# EAGLE library part USB-TO-QUAD-RS-485-CONV-MODULE (library USB-to-Quad-RS-485-Conv-Module)
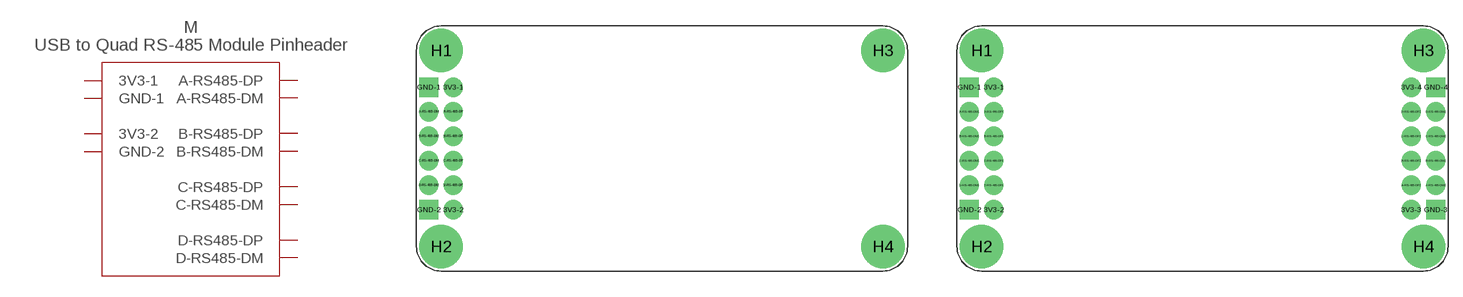
[diagram p0: symbol with the pads of USB-TO-QUAD-RS-485-CONV-MODULE-DIMENSION; footprints USB-TO-QUAD-RS-485-CONV-MODULE-DIMENSION, USB-TO-QUAD-RS-485-CONV-MODULE-TPLACE]

Designator prefix M

## USB-TO-QUAD-RS-485-CONV-MODULEDIMENSION  [USB-TO-QUAD-RS-485-CONV-MODULE-DIMENSION]
3V3-1  3V3-1
3V3-2  3V3-2
A-RS-485-DM  A-RS485-DM
A-RS-485-DP  A-RS485-DP
B-RS-485-DM  B-RS485-DM
B-RS-485-DP  B-RS485-DP
C-RS-485-DM  C-RS485-DM
C-RS-485-DP  C-RS485-DP
D-RS-485-DM  D-RS485-DM
D-RS-485-DP  D-RS485-DP
GND-1  GND-1
GND-2  GND-2

## USB-TO-QUAD-RS-485-CONV-MODULETPLACE  [USB-TO-QUAD-RS-485-CONV-MODULE-TPLACE]
3V3-1  3V3-1
3V3-2  3V3-2
3V3-3  3V3-1
3V3-4  3V3-2
A-RS-485-DM1  A-RS485-DM
A-RS-485-DM2  A-RS485-DM
A-RS-485-DP1  A-RS485-DP
A-RS-485-DP2  A-RS485-DP
B-RS-485-DM1  B-RS485-DM
B-RS-485-DM2  B-RS485-DM
B-RS-485-DP1  B-RS485-DP
B-RS-485-DP2  B-RS485-DP
C-RS-485-DM1  C-RS485-DM
C-RS-485-DM2  C-RS485-DM
C-RS-485-DP1  C-RS485-DP
C-RS-485-DP2  C-RS485-DP
D-RS-485-DM1  D-RS485-DM
D-RS-485-DM2  D-RS485-DM
D-RS-485-DP1  D-RS485-DP
D-RS-485-DP2  D-RS485-DP
GND-1  GND-1
GND-2  GND-2
GND-3  GND-1
GND-4  GND-2

## Footprint USB-TO-QUAD-RS-485-CONV-MODULE-DIMENSION (pad centres in mm)
drill 1 pad 2: 3V3-1 3.81,6.35; 3V3-2 3.81,-6.35; A-RS-485-DM 1.27,3.81; A-RS-485-DP 3.81,3.81; B-RS-485-DM 1.27,1.27; B-RS-485-DP 3.81,1.27; C-RS-485-DM 1.27,-1.27; C-RS-485-DP 3.81,-1.27; D-RS-485-DM 1.27,-3.81; D-RS-485-DP 3.81,-3.81
drill 1 pad 2 square: GND-1 1.27,6.35; GND-2 1.27,-6.35
drill 2.5 pad 4.5: H1 2.54,10.16; H2 2.54,-10.16; H3 48.26,10.16; H4 48.26,-10.16

## Footprint USB-TO-QUAD-RS-485-CONV-MODULE-TPLACE (pad centres in mm)
drill 1 pad 2: 3V3-1 3.81,6.35; 3V3-2 3.81,-6.35; 3V3-3 46.99,-6.35; 3V3-4 46.99,6.35; A-RS-485-DM1 1.27,3.81; A-RS-485-DM2 49.53,-3.81; A-RS-485-DP1 3.81,3.81; A-RS-485-DP2 46.99,-3.81; B-RS-485-DM1 1.27,1.27; B-RS-485-DM2 49.53,-1.27; B-RS-485-DP1 3.81,1.27; B-RS-485-DP2 46.99,-1.27; C-RS-485-DM1 1.27,-1.27; C-RS-485-DM2 49.53,1.27; C-RS-485-DP1 3.81,-1.27; C-RS-485-DP2 46.99,1.27; D-RS-485-DM1 1.27,-3.81; D-RS-485-DM2 49.53,3.81; D-RS-485-DP1 3.81,-3.81; D-RS-485-DP2 46.99,3.81
drill 1 pad 2 square: GND-1 1.27,6.35; GND-2 1.27,-6.35; GND-3 49.53,-6.35; GND-4 49.53,6.35
drill 2.5 pad 4.5: H1 2.54,10.16; H2 2.54,-10.16; H3 48.26,10.16; H4 48.26,-10.16